# Altium footprint library semicon-chip.PcbLib: 62 footprints (part 3 of 4)
Each footprint in its own frame and in the unit in brackets; x right, y up, seen from the top. Pads: shape width x height; smd on the part's side, far side on the other; paste and mask are expansions set on the pad; w line width, h text height; cw(c..) or ccw(c..) is an arc to the next point about the centre after c.
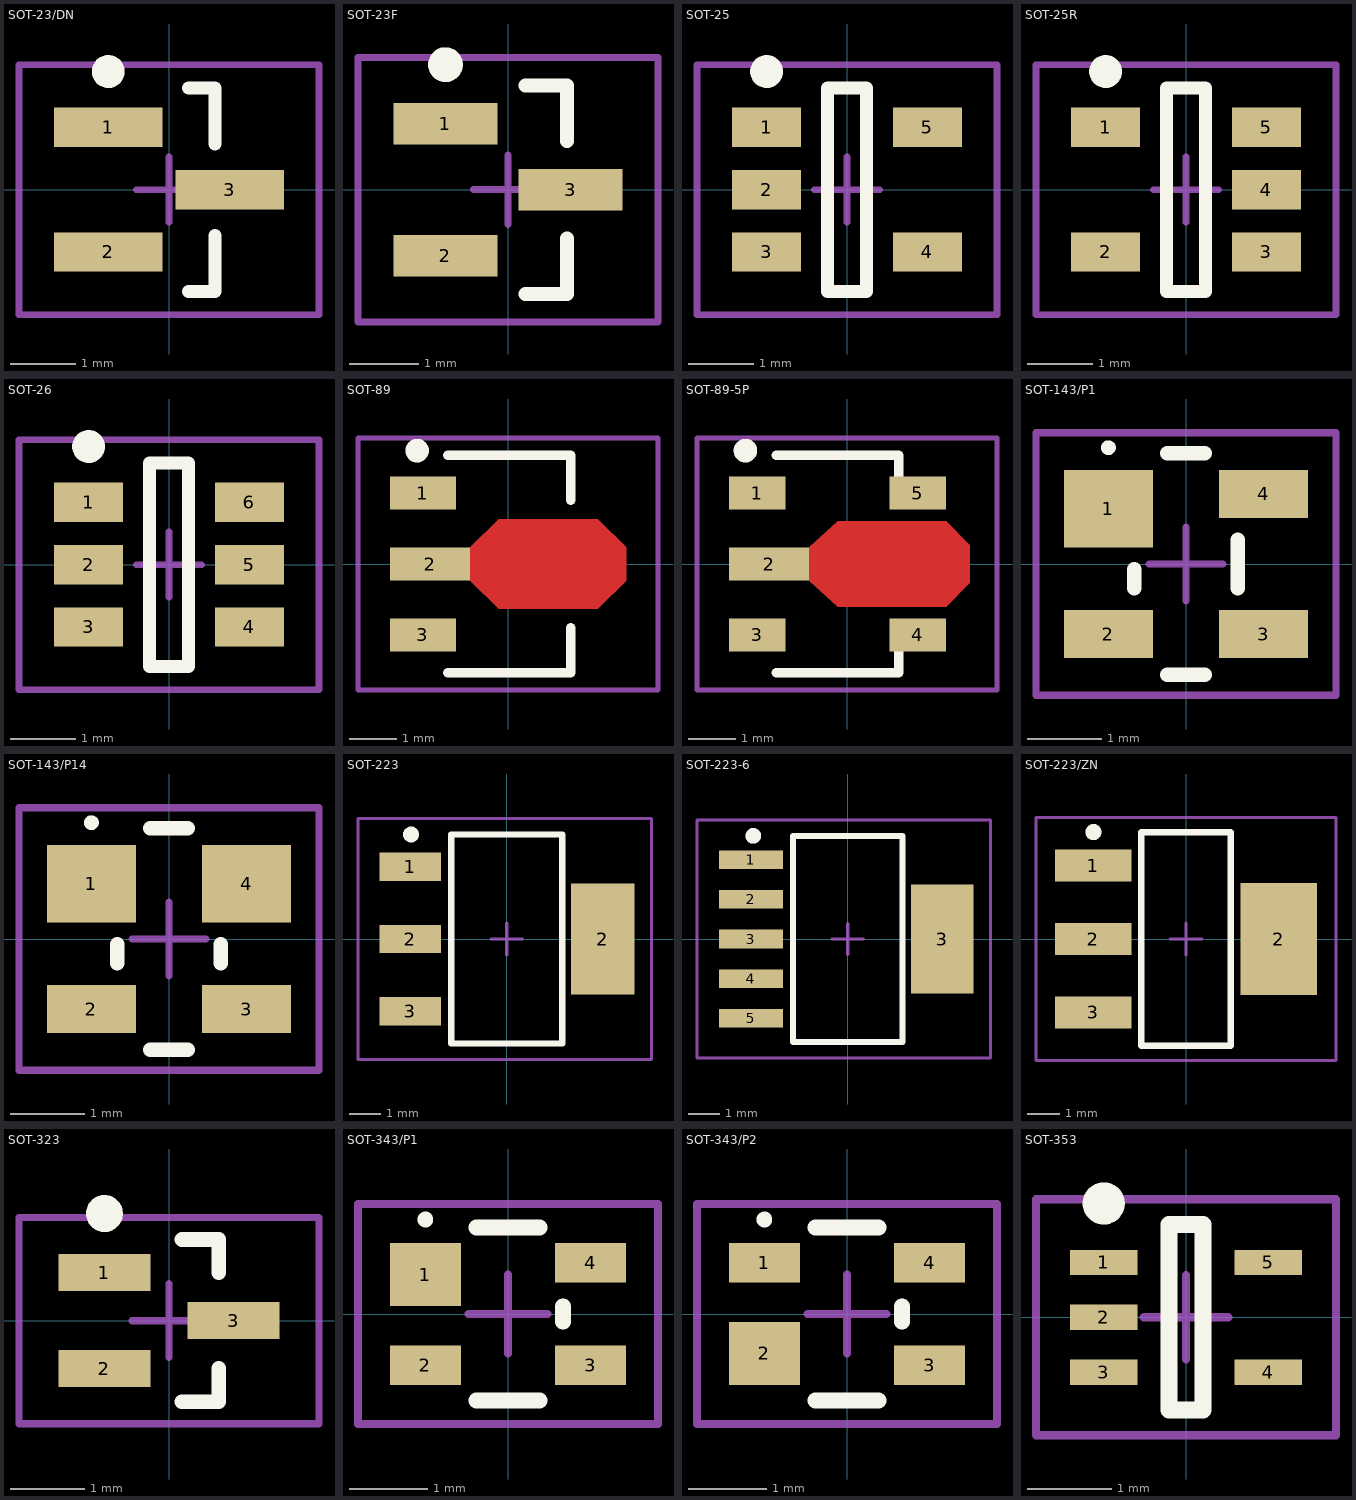
[diagram p2: the footprints below, top view; thin cyan lines are the x and y axes]

## SOT-23/DN [mm] "SOT23, 3-Leads, Body 2,92x2,38mm, Pitch 0,95mm, IPC Medium Density"
height 1.1
pads (3):
  rect 1.65x0.6 smd: 1(-0.925,0.95) 2(-0.925,-0.95) 3(0.925,0)
Top Overlay:
  circle w0.25: c-0.925,1.8 r0.125
  lines w0.2: 0.3,-1.55 0.7,-1.55 0.7,-0.7 ; 0.3,1.55 0.7,1.55 0.7,0.7
Mechanical 13:
  lines w0.1: -2.286,-1.905 -2.286,1.905 2.286,1.905 2.286,-1.905 -2.286,-1.905
  text ".Designator" at -1.97,-0.64 h1.1
Mechanical 15:
  lines w0.05: -2.286,-1.905 -2.286,1.905 2.286,1.905 2.286,-1.905 -2.286,-1.905
  lines w0.1: -0.5,0 0.5,0 ; 0,-0.5 0,0.5
3D body: height 1.1, standoff 0.1, extent -0.7,-1.525 0.7,1.525

## SOT-23F [mm] "SOT23, 3-Leads, Body 2,90x2,40mm, Pitch 0,95mm, IPC Medium Density"
height 1
pads (3):
  rect 1.5x0.6 smd: 1(-0.9,0.95) 2(-0.9,-0.95) 3(0.9,0)
Top Overlay:
  circle w0.25: c-0.9,1.8 r0.125
  lines w0.2: 0.25,-1.5 0.85,-1.5 0.85,-0.7 ; 0.25,1.5 0.85,1.5 0.85,0.7
Mechanical 13:
  lines w0.1: -2.159,-1.905 2.159,-1.905 2.159,1.905 -2.159,1.905 -2.159,-1.905
  text ".Designator" at -1.9,-0.63 h1.1
Mechanical 15:
  lines w0.05: -2.159,-1.905 2.159,-1.905 2.159,1.905 -2.159,1.905 -2.159,-1.905
  lines w0.1: -0.5,0 0.5,0 ; 0,-0.5 0,0.5
3D body: height 1, standoff 0.1, extent -0.85,-1.5 0.85,1.5

## SOT-25 [mm] "SOT23, 5-Leads, Body 3,00x2,85mm, Pitch 0,95mm, IPC Medium Density"
height 1.3
pads (5):
  rect 1.05x0.6 smd: 1(-1.225,0.95) 2(-1.225,0) 3(-1.225,-0.95) 4(1.225,-0.95) 5(1.225,0.95)
Top Overlay:
  circle w0.25: c-1.225,1.8 r0.125
  lines w0.2: -0.3,-1.55 0.3,-1.55 0.3,1.55 -0.3,1.55 -0.3,-1.55
Mechanical 13:
  lines w0.1: -2.286,-1.905 -2.286,1.905 2.286,1.905 2.286,-1.905 -2.286,-1.905
  text ".Designator" at -2,-0.51 h1.1
Mechanical 15:
  lines w0.05: -2.286,-1.905 -2.286,1.905 2.286,1.905 2.286,-1.905 -2.286,-1.905
  lines w0.1: -0.5,0 0.5,0 ; 0,-0.5 0,0.5
3D body: height 1.3, standoff 0.1, extent -0.85,-1.55 0.85,1.55

## SOT-25R [mm] "SOT23, 5-Leads, Body 3,00x2,85mm, Pitch 0,95mm, IPC Medium Density"
height 1.3
pads (5):
  rect 1.05x0.6 smd: 1(-1.225,0.95) 2(-1.225,-0.95) 3(1.225,-0.95) 4(1.225,0) 5(1.225,0.95)
Top Overlay:
  circle w0.25: c-1.225,1.8 r0.125
  lines w0.2: -0.3,-1.55 -0.3,1.55 0.3,1.55 0.3,-1.55 -0.3,-1.55
Mechanical 13:
  lines w0.1: -2.286,-1.905 2.286,-1.905 2.286,1.905 -2.286,1.905 -2.286,-1.905
  text ".Designator" at -1.93,-0.55 h1.1
Mechanical 15:
  lines w0.05: -2.286,-1.905 2.286,-1.905 2.286,1.905 -2.286,1.905 -2.286,-1.905
  lines w0.1: -0.5,0 0.5,0 ; 0,-0.5 0,0.5
3D body: height 1.3, standoff 0.1, extent -0.85,-1.55 0.85,1.55

## SOT-26 [mm] "SOT23, 6-Leads, Body 3,00x2,85mm, Pitch 0,95mm, IPC Medium Density"
height 1.3
pads (6):
  rect 1.05x0.6 smd: 1(-1.225,0.95) 2(-1.225,0) 3(-1.225,-0.95) 4(1.225,-0.95) 5(1.225,0) 6(1.225,0.95)
Top Overlay:
  circle w0.25: c-1.225,1.8 r0.125
  lines w0.2: -0.3,-1.55 -0.3,1.55 0.3,1.55 0.3,-1.55 -0.3,-1.55
Mechanical 13:
  lines w0.1: -2.286,-1.905 2.286,-1.905 2.286,1.905 -2.286,1.905 -2.286,-1.905
  text ".Designator" at -1.99,-0.55 h1.1
Mechanical 15:
  lines w0.05: -2.286,-1.905 2.286,-1.905 2.286,1.905 -2.286,1.905 -2.286,-1.905
  lines w0.1: -0.5,0 0.5,0 ; 0,-0.5 0,0.5
3D body: height 1.3, standoff 0.1, extent -0.85,-1.55 0.85,1.55

## SOT-89 [mm] "SOT89, 3-Leads, Body 4,50x2,50mm, Pitch 1,50mm, Lead Span 4,1mm, IPC Medium Density"
height 1.6
pads (3):
  rect 1.4x0.7 smd: 1(-1.8,1.5) 3(-1.8,-1.5)
  rect 1.7x0.7 smd: 2(-1.65,0)
Top Layer:
  region: -0.8,0.35 -0.2,0.95 1.9,0.95 2.5,0.35 2.5,-0.35 1.9,-0.95 -0.2,-0.95 -0.8,-0.35
Top Overlay:
  circle w0.25: c-1.925,2.4 r0.125
  lines w0.2: -1.275,-2.3 1.325,-2.3 1.325,-1.35 ; -1.275,2.3 1.325,2.3 1.325,1.35
Mechanical 13:
  lines w0.1: -3.175,-2.667 -3.175,2.667 3.175,2.667 3.175,-2.667 -3.175,-2.667
  text ".Designator" at -2.86,-0.8 h1.6
Mechanical 15:
  lines w0.05: -3.175,-2.667 -3.175,2.667 3.175,2.667 3.175,-2.667 -3.175,-2.667
  lines w0.1: -0.475,0 0.525,0 ; 0.025,-0.5 0.025,0.5
3D body: height 1.6, standoff 0, extent -1.275,-2.3 1.325,2.3

## SOT-89-5P [mm] "SOT89, 5-Leads, Body 4,50x2,50mm, Pitch 1,50mm, Lead Span 4,1mm, IPC Medium Density"
height 1.6
pads (5):
  rect 1.2x0.7 smd: 1(-1.9,1.5) 3(-1.9,-1.5) 4(1.5,-1.5) 5(1.5,1.5)
  rect 1.7x0.7 smd: 2(-1.65,0)
Top Layer:
  region: -0.8,0.35 -0.2,0.9 2.1,0.9 2.6,0.4 2.6,-0.4 2.1,-0.9 -0.2,-0.9 -0.8,-0.35
Top Overlay:
  circle w0.25: c-2.15,2.4 r0.125
  lines w0.2: -1.5,-2.3 1.1,-2.3 1.1,-1.35 ; -1.5,2.3 1.1,2.3 1.1,1.35
Mechanical 13:
  lines w0.1: -3.175,-2.667 -3.175,2.667 3.175,2.667 3.175,-2.667 -3.175,-2.667
  text ".Designator" at -2.88,-0.82 h1.6
Mechanical 15:
  lines w0.05: -3.175,-2.667 -3.175,2.667 3.175,2.667 3.175,-2.667 -3.175,-2.667
  lines w0.1: -0.7,0 0.3,0 ; -0.2,-0.5 -0.2,0.5
3D body: height 1.6, standoff 0, extent -1.5,-2.3 1.1,2.3

## SOT-143/P1 [mm] "SOT143, 4-Leads, Body 2,90x2,40mm, Pitch 1,90mm, IPC Medium Density"
height 1
pads (4):
  rect 1.2x1.05 smd: 1(-1.05,0.75)
  rect 1.2x0.65 smd: 2(-1.05,-0.95) 3(1.05,-0.95) 4(1.05,0.95)
Top Overlay:
  circle w0.1: c-1.05,1.575 r0.05
  lines w0.2: -0.7,-0.325 -0.7,-0.075 ; -0.25,-1.5 0.25,-1.5 ; -0.25,1.5 0.25,1.5 ; 0.7,-0.325 0.7,0.325
Mechanical 13:
  lines w0.1: -2.032,-1.778 2.032,-1.778 2.032,1.778 -2.032,1.778 -2.032,-1.778
  text ".Designator" at -1.77,-0.48 h1
Mechanical 15:
  lines w0.05: -2.032,-1.778 2.032,-1.778 2.032,1.778 -2.032,1.778 -2.032,-1.778
  lines w0.1: -0.5,0 0.5,0 ; 0,-0.5 0,0.5
3D body: height 1, standoff 0.1, extent -0.7,-1.5 0.7,1.5

## SOT-143/P14 [mm] "SOT143, 4-Leads, Body 2,90x2,40mm, Pitch 1,90mm, IPC Medium Density"
height 1
pads (4):
  rect 1.2x1.05 smd: 1(-1.05,0.75) 4(1.05,0.75)
  rect 1.2x0.65 smd: 2(-1.05,-0.95) 3(1.05,-0.95)
Top Overlay:
  circle w0.1: c-1.05,1.575 r0.05
  lines w0.2: -0.7,-0.325 -0.7,-0.075 ; -0.25,-1.5 0.25,-1.5 ; -0.25,1.5 0.25,1.5 ; 0.7,-0.325 0.7,-0.075
Mechanical 13:
  lines w0.1: -2.032,-1.778 2.032,-1.778 2.032,1.778 -2.032,1.778 -2.032,-1.778
  text ".Designator" at -1.77,-0.5 h1
Mechanical 15:
  lines w0.05: -2.032,-1.778 2.032,-1.778 2.032,1.778 -2.032,1.778 -2.032,-1.778
  lines w0.1: -0.5,0 0.5,0 ; 0,-0.5 0,0.5
3D body: height 1, standoff 0.1, extent -0.7,-1.5 0.7,1.5

## SOT-223 [mm] "SOT223, 4-Leads, Body 6,50x7,00mm (avg), Pitch 2,30mm, IPC Medium Density"
height 1.65
pads (4):
  rect 1.95x0.9 smd: 1(-3.048,2.286) 2(-3.048,0) 3(-3.048,-2.286)
  rect 2x3.5 smd: 2(3.025,0)
Top Overlay:
  circle w0.25: c-3.025,3.3 r0.125
  lines w0.2: -1.75,-3.3 1.75,-3.3 1.75,3.3 -1.75,3.3 -1.75,-3.3
Mechanical 13:
  lines w0.1: -4.699,-3.81 4.572,-3.81 4.572,3.81 -4.699,3.81 -4.699,-3.81
  text ".Designator" at -3.175,-1.016 h2
Mechanical 15:
  lines w0.05: -4.699,-3.81 4.572,-3.81 4.572,3.81 -4.699,3.81 -4.699,-3.81
  lines w0.1: -0.5,0 0.5,0 ; 0,-0.5 0,0.5
3D body: height 1.65, standoff 0.1, extent -1.775,-3.275 1.775,3.275

## SOT-223-6 [mm] "SOT223, 4-Leads, Body 6,50x7,00mm (avg), Pitch 2,30mm, IPC Medium Density"
height 1.65
pads (6):
  rect 2.05x0.6 smd: 1(-3.1,2.54) 2(-3.1,1.27) 3(-3.1,0) 4(-3.1,-1.27) 5(-3.1,-2.54)
  rect 2x3.5 smd: 3(3.025,0)
Top Overlay:
  circle w0.25: c-3.025,3.3 r0.125
  lines w0.2: -1.75,-3.3 -1.75,3.3 1.75,3.3 1.75,-3.3 -1.75,-3.3
Mechanical 13:
  lines w0.1: -4.826,-3.81 -4.826,3.81 4.572,3.81 4.572,-3.81 -4.826,-3.81
  text ".Designator" at -3.175,-1.016 h2
Mechanical 15:
  lines w0.05: -4.826,-3.81 -4.826,3.81 4.572,3.81 4.572,-3.81 -4.826,-3.81
  lines w0.1: -0.5,0 0.5,0 ; 0,-0.5 0,0.5
3D body: height 1.65, standoff 0.1, extent -1.775,-3.275 1.775,3.275

## SOT-223/ZN [mm] "SOT223, 4-Leads, Body 6,50x7,00mm (avg), Pitch 2,30mm, IPC Medium Density"
height 1.7
pads (4):
  rect 2.4x1 smd: 1(-2.9,2.3) 2(-2.9,0) 3(-2.9,-2.3)
  rect 2.4x3.5 smd: 2(2.9,0)
Top Overlay:
  circle w0.25: c-2.9,3.35 r0.125
  lines w0.2: -1.4,-3.35 1.4,-3.35 1.4,3.35 -1.4,3.35 -1.4,-3.35
Mechanical 13:
  lines w0.1: -4.699,-3.81 4.699,-3.81 4.699,3.81 -4.699,3.81 -4.699,-3.81
  text ".Designator" at -3.048,-1.016 h2
Mechanical 15:
  lines w0.05: -4.699,-3.81 4.699,-3.81 4.699,3.81 -4.699,3.81 -4.699,-3.81
  lines w0.1: -0.5,0 0.5,0 ; 0,-0.5 0,0.5
3D body: height 1.7, standoff 0.1, extent -1.85,-3.35 1.85,3.35

## SOT-323 [mm] "SOT23, 3-Leads, Body 2,00x2,10mm, Pitch 0,65mm, IPC Medium Density"
height 1
pads (3):
  rect 1.25x0.5 smd: 1(-0.875,0.65) 2(-0.875,-0.65) 3(0.875,0)
Top Overlay:
  circle w0.25: c-0.875,1.45 r0.125
  lines w0.2: 0.175,-1.1 0.675,-1.1 0.675,-0.65 ; 0.175,1.1 0.675,1.1 0.675,0.65
Mechanical 13:
  lines w0.1: -2.032,-1.397 -2.032,1.397 2.032,1.397 2.032,-1.397 -2.032,-1.397
  text ".Designator" at -1.77,-0.4 h0.8
Mechanical 15:
  lines w0.05: -2.032,-1.397 -2.032,1.397 2.032,1.397 2.032,-1.397 -2.032,-1.397
  lines w0.1: -0.5,0 0.5,0 ; 0,-0.5 0,0.5
3D body: height 1, standoff 0.1, extent -0.675,-1.1 0.675,1.1

## SOT-343/P1 [mm] "SOT343, 4-Leads, Body 2,00x2,10mm, Pitch 1,30mm, IPC Medium Density"
height 1
pads (4):
  rect 0.9x0.8 smd: 1(-1.05,0.5)
  rect 0.9x0.5 smd: 2(-1.05,-0.65) 3(1.05,-0.65) 4(1.05,0.65)
Top Overlay:
  circle w0.1: c-1.05,1.2 r0.05
  lines w0.2: -0.4,-1.1 0.4,-1.1 ; -0.4,1.1 0.4,1.1 ; 0.7,-0.1 0.7,0.1
Mechanical 13:
  lines w0.1: -1.905,-1.397 1.905,-1.397 1.905,1.397 -1.905,1.397 -1.905,-1.397
  text ".Designator" at -1.69,-0.43 h0.8
Mechanical 15:
  lines w0.05: -1.905,-1.397 1.905,-1.397 1.905,1.397 -1.905,1.397 -1.905,-1.397
  lines w0.1: -0.5,0 0.5,0 ; 0,-0.5 0,0.5
3D body: height 1, standoff 0.1, extent -0.675,-1.1 0.675,1.1

## SOT-343/P2 [mm] "SOT343, 4-Leads, Body 2,00x2,10mm, Pitch 1,30mm, IPC Medium Density"
height 1
pads (4):
  rect 0.9x0.5 smd: 1(-1.05,0.65) 3(1.05,-0.65) 4(1.05,0.65)
  rect 0.9x0.8 smd: 2(-1.05,-0.5)
Top Overlay:
  circle w0.1: c-1.05,1.2 r0.05
  lines w0.2: -0.4,-1.1 0.4,-1.1 ; -0.4,1.1 0.4,1.1 ; 0.7,-0.1 0.7,0.1
Mechanical 13:
  lines w0.1: -1.905,-1.397 -1.905,1.397 1.905,1.397 1.905,-1.397 -1.905,-1.397
  text ".Designator" at -1.53,-0.35 h0.7
Mechanical 15:
  lines w0.05: -1.905,-1.397 -1.905,1.397 1.905,1.397 1.905,-1.397 -1.905,-1.397
  lines w0.1: -0.5,0 0.5,0 ; 0,-0.5 0,0.5
3D body: height 1, standoff 0.1, extent -0.675,-1.1 0.675,1.1

## SOT-353 [mm] "SOT23, 5-Leads, Body 2,00x2,10mm, Pitch 0,65mm, IPC Medium Density"
height 1
pads (5):
  rect 0.8x0.3 smd: 1(-0.975,0.65) 2(-0.975,0) 3(-0.975,-0.65) 4(0.975,-0.65) 5(0.975,0.65)
Top Overlay:
  circle w0.25: c-0.975,1.35 r0.125
  lines w0.2: -0.2,-1.1 0.2,-1.1 0.2,1.1 -0.2,1.1 -0.2,-1.1
Mechanical 13:
  lines w0.1: -1.778,-1.397 -1.778,1.397 1.778,1.397 1.778,-1.397 -1.778,-1.397
  text ".Designator" at -1.45,-0.38 h0.8
Mechanical 15:
  lines w0.05: -1.778,-1.397 -1.778,1.397 1.778,1.397 1.778,-1.397 -1.778,-1.397
  lines w0.1: -0.5,0 0.5,0 ; 0,-0.5 0,0.5
3D body: height 1, standoff 0.1, extent -0.675,-1.1 0.675,1.1